# Altium schematic symbol library PowerSupplyPE.SCHLIB: 20 symbols
Pins are listed as number, name and electrical type; pins without a type are passive.

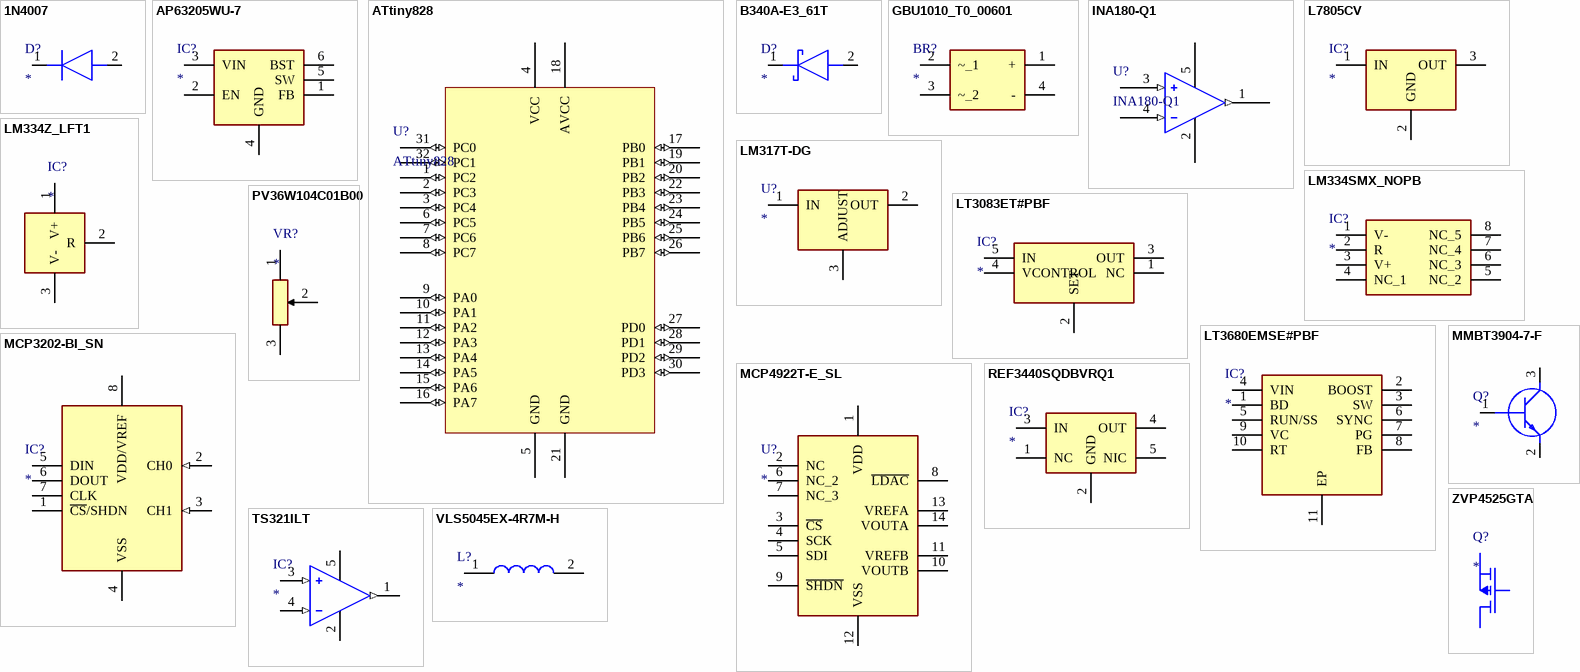
[diagram p0: symbols 1N4007 to ZVP4525GTA]

## 1N4007
designator D?
Diode; Manufacturer_Name: Diotec; Manufacturer_Part_Number: 1N4007; Datasheet Link: https://diotec.com/tl_files/diotec/files/pdf/datasheets/1n4001.pdf; Mouser Part Number: 637-1N4007; Mouser Price/Stock: https://www.mouser.co.uk/ProductDetail/Diotec-Semiconductor/1N4007?qs=OlC7AqGiEDmK9mU1uTiCkg%3D%3D; Arrow Part Number: 1N4007; Arrow Price/Stock: https://www.arrow.com/en/products/1n4007/diotec-semiconductor-ag?region=europe
footprint DIOAD1405W58L465D235
pins: 1 K, 2 A

## AP63205WU-7
designator IC?
Integrated Circuit; Manufacturer_Name: Diodes Inc.; Manufacturer_Part_Number: AP63205WU-7; Datasheet Link: https://www.diodes.com/assets/Datasheets/AP63200-AP63201-AP63203-AP63205.pdf; Height: 1mm; Mouser Part Number: 621-AP63205WU-7; Mouser Price/Stock: https://www.mouser.co.uk/ProductDetail/Diodes-Incorporated/AP63205WU-7?qs=u16ybLDytRZtkj8PzdWCOw%3D%3D; Arrow Part Number: AP63205WU-7; Arrow Price/Stock: https://www.arrow.com/en/products/ap63205wu-7/diodes-incorporated?region=europe
footprint SOT95P280X100-6N
pins: 1 FB, 2 EN, 3 VIN, 4 GND, 5 SW, 6 BST

## ATtiny828
designator U?
Microchip ATtiny828 AVR MCU
footprint QFP80P900X900X120-32N
pins: 1 PC2 (io), 2 PC3 (io), 3 PC4 (io), 4 VCC (power), 5 GND (power), 6 PC5 (io), 7 PC6 (io), 8 PC7 (io), 9 PA0 (io), 10 PA1 (io), 11 PA2 (io), 12 PA3 (io), 13 PA4 (io), 14 PA5 (io), 15 PA6 (io), 16 PA7 (io), 17 PB0 (io), 18 AVCC (power), 19 PB1 (io), 20 PB2 (io), 21 GND (power), 22 PB3 (io), 23 PB4 (io), 24 PB5 (io), 25 PB6 (io), 26 PB7 (io), 27 PD0 (io), 28 PD1 (io), 29 PD2 (io), 30 PD3 (io), 31 PC0 (io), 32 PC1 (io)

## B340A-E3_61T
designator D?
Diode; Manufacturer_Name: Vishay; Manufacturer_Part_Number: B340A-E3/61T; Datasheet Link: https://ms.componentsearchengine.com/Datasheets/2/B340A-E3_61T.pdf; Height: 2.29mm; Mouser Part Number: 625-BD340A-E3/61T; Mouser Price/Stock: https://www.mouser.co.uk/ProductDetail/Vishay-General-Semiconductor/B340A-E3-61T?qs=tdXsjSi%2FIMY4I2dGLbnpzg%3D%3D; Arrow Part Number: B340A-E3/61T; Arrow Price/Stock: https://www.arrow.com/en/products/b340a-e361t/vishay?region=nac
footprint DIOM5127X229N
pins: 1 K, 2 A

## GBU1010_T0_00601
designator BR?
Bridge Rectifier; Manufacturer_Name: PANJIT; Manufacturer_Part_Number: GBU1010_T0_00601; Datasheet Link: https://www.panjit.com.tw/upload/datasheet/GBU1010.pdf; Height: 21.55mm; Mouser Part Number: 241-GBU1010_T0_00601; Mouser Price/Stock: https://www.mouser.co.uk/ProductDetail/Panjit/GBU1010_T0_00601?qs=Znm5pLBrcAI2lNvio7iUfQ%3D%3D
footprint GBU1010_T0_00601
pins: 1 +, 2 ~_1, 3 ~_2, 4 -

## INA180-Q1
designator U?
Current Sense Amplifier
footprint SOT95P280X145-5N
pins: 1 OUT (out), 2 GND (power), 3 IN+ (in), 4 IN- (in), 5 VS (power)

## L7805CV
designator IC?
Integrated Circuit; Manufacturer_Name: STMicroelectronics; Manufacturer_Part_Number: L7805CV; Datasheet Link: http://www.st.com/web/en/resource/technical/document/datasheet/CD00000444.pdf; Height: 4.6mm; Mouser Part Number: 511-L7805CV; Mouser Price/Stock: https://www.mouser.co.uk/ProductDetail/STMicroelectronics/L7805CV?qs=9NrABl3fj%2FqplZAHiYUxWg%3D%3D; Arrow Part Number: L7805CV; Arrow Price/Stock: https://www.arrow.com/en/products/l7805cv/stmicroelectronics?region=europe
footprint TO255P460X1020X2008-3P
pins: 1 IN, 2 GND, 3 OUT

## LM317T-DG
designator U?
Integrated Circuit; Manufacturer_Name: STMicroelectronics; Manufacturer_Part_Number: LM317T-DG; Datasheet Link: https://www.st.com/resource/en/datasheet/lm217.pdf; Height: 4.6mm; Mouser Part Number: 511-LM317T-DG; Mouser Price/Stock: https://www.mouser.co.uk/ProductDetail/STMicroelectronics/LM317T-DG?qs=xEJ61ozf1a3czOJi0Kwsmg%3D%3D; Arrow Part Number: LM317T-DG; Arrow Price/Stock: https://www.arrow.com/en/products/lm317t-dg/stmicroelectronics?region=nac
footprint TO255P460X1020X2008-3P
pins: 1 IN, 2 OUT, 3 ADJUST

## LM334SMX_NOPB
designator IC?
Integrated Circuit; Manufacturer_Name: Texas Instruments; Manufacturer_Part_Number: LM334SMX/NOPB; Datasheet Link: http://www.ti.com/lit/gpn/LM334; Height: 1.75mm; Mouser Part Number: 926-LM334SMX/NOPB; Mouser Price/Stock: https://www.mouser.co.uk/ProductDetail/Texas-Instruments/LM334SMX-NOPB?qs=X1J7HmVL2ZF1HSorCNkgVw%3D%3D; Arrow Part Number: LM334SMX/NOPB; Arrow Price/Stock: https://www.arrow.com/en/products/lm334smxnopb/texas-instruments?region=nac
footprint SOIC127P600X175-8N
pins: 1 V-, 2 R, 3 V+, 4 NC_1, 5 NC_2, 6 NC_3, 7 NC_4, 8 NC_5

## LM334Z_LFT1
designator IC?
Integrated Circuit; Manufacturer_Name: Texas Instruments; Manufacturer_Part_Number: LM334Z/LFT1; Datasheet Link: http://www.ti.com/lit/ds/symlink/lm134.pdf; Mouser Part Number: 926-LM334Z/LFT1; Mouser Price/Stock: https://www.mouser.co.uk/ProductDetail/Texas-Instruments/LM334Z-LFT1?qs=X1J7HmVL2ZHhZPl3u1Nn6g%3D%3D; Arrow Part Number: LM334Z/LFT1; Arrow Price/Stock: https://www.arrow.com/en/products/lm334zlft1/texas-instruments?region=nac
footprint LP0003A
pins: 1 V+, 2 R, 3 V-

## LT3083ET#PBF
designator IC?
Integrated Circuit; Manufacturer_Name: Analog Devices; Manufacturer_Part_Number: LT3083ET#PBF; Datasheet Link: http://www.linear.com/docs/30239; Height: 4.572mm; Mouser Part Number: 584-LT3083ET#PBF; Mouser Price/Stock: https://www.mouser.co.uk/ProductDetail/Analog-Devices/LT3083ETPBF?qs=hVkxg5c3xu%252BEQibxnmC0QQ%3D%3D; Arrow Part Number: LT3083ET#PBF; Arrow Price/Stock: https://www.arrow.com/en/products/lt3083etpbf/linear-technology
footprint TO170P457X1022X2306-5P
pins: 1 NC, 2 SET, 3 OUT, 4 VCONTROL, 5 IN

## LT3680EMSE#PBF
designator IC?
Integrated Circuit; Manufacturer_Name: Analog Devices; Manufacturer_Part_Number: LT3680EMSE#PBF; Datasheet Link: http://cds.linear.com/docs/en/datasheet/3680fb.pdf; Height: 1.1mm; Mouser Part Number: 584-LT3680EMSE#PBF; Mouser Price/Stock: https://www.mouser.co.uk/ProductDetail/Analog-Devices/LT3680EMSEPBF?qs=hVkxg5c3xu84NF9L1FMYWA%3D%3D; Arrow Part Number: LT3680EMSE#PBF; Arrow Price/Stock: https://www.arrow.com/en/products/lt3680emsepbf/analog-devices?region=nac
footprint SOP50P490X110-11N
pins: 1 BD, 2 BOOST, 3 SW, 4 VIN, 5 RUN/SS, 6 SYNC, 7 PG, 8 FB, 9 VC, 10 RT, 11 EP

## MCP3202-BI_SN
designator IC?
Integrated Circuit; Manufacturer_Name: Microchip; Manufacturer_Part_Number: MCP3202-BI/SN; Datasheet Link: https://datasheet.datasheetarchive.com/originals/distributors/Datasheets-19/DSA-360813.pdf; Height: 1.75mm; Mouser Part Number: 579-MCP3202BISN; Mouser Price/Stock: https://www.mouser.co.uk/ProductDetail/Microchip-Technology-Atmel/MCP3202-BI-SN?qs=C%252BuF95oynlkGMhp5%2FSqbew%3D%3D; Arrow Part Number: MCP3202-BI/SN; Arrow Price/Stock: https://www.arrow.com/en/products/mcp3202-bisn/microchip-technology?region=nac
footprint SOIC127P600X175-8N
pins: 1 ~{CS}/SHDN, 2 CH0 (in), 3 CH1 (in), 4 VSS (power), 5 DIN, 6 DOUT, 7 CLK, 8 VDD/VREF (power)

## MCP4922T-E_SL
designator U?
Undefined or Miscellaneous; Manufacturer_Name: Microchip; Manufacturer_Part_Number: MCP4922T-E/SL; Datasheet Link: http://ww1.microchip.com/downloads/en/DeviceDoc/22250A.pdf; Height: 1.75mm; Mouser Part Number: 579-MCP4922T-E/SL; Mouser Price/Stock: https://www.mouser.co.uk/ProductDetail/Microchip-Technology-Atmel/MCP4922T-E-SL?qs=8U9qMIGhlkqc26Xt7UKk2w%3D%3D; Arrow Part Number: MCP4922T-E/SL; Arrow Price/Stock: https://www.arrow.com/en/products/mcp4922t-esl/microchip-technology?region=nac
footprint SOIC127P600X175-14N
pins: 1 VDD (power), 2 NC, 3 ~{CS}, 4 SCK, 5 SDI, 6 NC_2, 7 NC_3, 8 ~{LDAC}, 9 ~{SHDN}, 10 VOUTB, 11 VREFB, 12 VSS, 13 VREFA, 14 VOUTA

## MMBT3904-7-F
designator Q?
Transistor BJT NPN; Manufacturer_Name: Diodes Inc.; Manufacturer_Part_Number: MMBT3904-7-F; Datasheet Link: https://www.arrow.com/en/products/mmbt3904-7-f/diodes-incorporated; Height: 1.1mm; Mouser Part Number: 621-MMBT3904-F; Mouser Price/Stock: https://www.mouser.co.uk/ProductDetail/Diodes-Incorporated/MMBT3904-7-F?qs=7F%2FY8wl6X3H3eL7tHVWSBQ%3D%3D; Arrow Part Number: MMBT3904-7-F; Arrow Price/Stock: https://www.arrow.com/en/products/mmbt3904-7-f/diodes-incorporated?region=nac
footprint SOT96P240X110-3N
pins: 1 B, 2 E, 3 C

## PV36W104C01B00
designator VR?
Variable Resistor; Manufacturer_Name: Bourns; Manufacturer_Part_Number: PV36W104C01B00; Datasheet Link: https://www.bourns.com/docs/Product-Datasheets/pv36.pdf; Height: 10.03mm; Mouser Part Number: 81-PV36W104C01B00; Mouser Price/Stock: https://www.mouser.co.uk/ProductDetail/Bourns/PV36W104C01B00?qs=ifmdR88tEJ9s2DMKM%252Bry%252BA%3D%3D; Arrow Part Number: PV36W104C01B00; Arrow Price/Stock: https://www.arrow.com/en/products/pv36w104c01b00/bourns?region=nac
footprint PV36W201C01B00
pins: 1 CCW, 2 WIPER, 3 CW

## REF3440SQDBVRQ1
designator IC?
Integrated Circuit; Manufacturer_Name: Texas Instruments; Manufacturer_Part_Number: REF3440SQDBVRQ1; Datasheet Link: https://www.ti.com/lit/gpn/REF34-Q1; Height: 1.45mm; Mouser Part Number: 595-REF3440SQDBVRQ1; Mouser Price/Stock: https://www.mouser.co.uk/ProductDetail/Texas-Instruments/REF3440SQDBVRQ1?qs=bAKSY%2FctAC6om7nW8LpN%2Fg%3D%3D; Arrow Part Number: REF3440SQDBVRQ1; Arrow Price/Stock: https://www.arrow.com/en/products/ref3440sqdbvrq1/texas-instruments?region=nac
footprint SOT95P280X145-5N
pins: 1 NC, 2 GND, 3 IN, 4 OUT, 5 NIC

## TS321ILT
designator IC?
Integrated Circuit; Manufacturer_Name: STMicroelectronics; Manufacturer_Part_Number: TS321ILT; Datasheet Link: http://www.st.com/st-web-ui/static/active/en/resource/technical/document/datasheet/CD00001647.pdf; Height: 1.45mm; Mouser Part Number: 511-TS321IL; Mouser Price/Stock: https://www.mouser.co.uk/ProductDetail/STMicroelectronics/TS321ILT?qs=AYLkW%2FmgjI3DImBJVY6kBw%3D%3D; Arrow Part Number: TS321ILT; Arrow Price/Stock: https://www.arrow.com/en/products/ts321ilt/stmicroelectronics?region=europe
footprint SOT95P280X145-5N
pins: 1 OUTPUT (out), 2 VCC- (power), 3 NON-INVERTING_INPUT (in), 4 INVERTING_INPUT (in), 5 VCC+ (power)

## VLS5045EX-4R7M-H
designator L?
Inductor; Manufacturer_Name: TDK; Manufacturer_Part_Number: VLS5045EX-4R7M-H; Datasheet Link: https://product.tdk.com/system/files/dam/doc/product/inductor/inductor/smd/catalog/inductor_automotive_power_vls5045ex-h_en.pdf; Height: 4mm; Mouser Part Number: 810-VLS5045EX-4R7M-H; Mouser Price/Stock: https://www.mouser.co.uk/ProductDetail/TDK/VLS5045EX-4R7M-H?qs=EBDBlbfErPwFg%2FOwn47Q1A%3D%3D; Arrow Part Number: VLS5045EX-4R7M-H; Arrow Price/Stock: https://www.arrow.com/en/products/vls5045ex-4r7m-h/tdk?region=nac
footprint VLS5045EX330M
pins: 1, 2

## ZVP4525GTA
designator Q?
MOSFET (P-Channel); Manufacturer_Name: Diodes Inc.; Manufacturer_Part_Number: ZVP4525GTA; Datasheet Link: https://www.diodes.com/assets/Datasheets/ZVP4525G.pdf; Height: 1.8mm; Mouser Part Number: 522-ZVP4525GTA; Mouser Price/Stock: https://www.mouser.co.uk/ProductDetail/Diodes-Incorporated/ZVP4525GTA?qs=GedFDFLaBXFR8NEzssRbSQ%3D%3D; Arrow Part Number: ZVP4525GTA; Arrow Price/Stock: https://www.arrow.com/en/products/zvp4525gta/diodes-incorporated?region=nac
footprint SOT230P700X180-4N
pins: 1 G, 2 D_1, 3 S, 4 D_2